# Altium schematic symbol library Schlib_Microchip.SchLib: 32 symbols
Pins are listed as number, name and electrical type; pins without a type are passive.

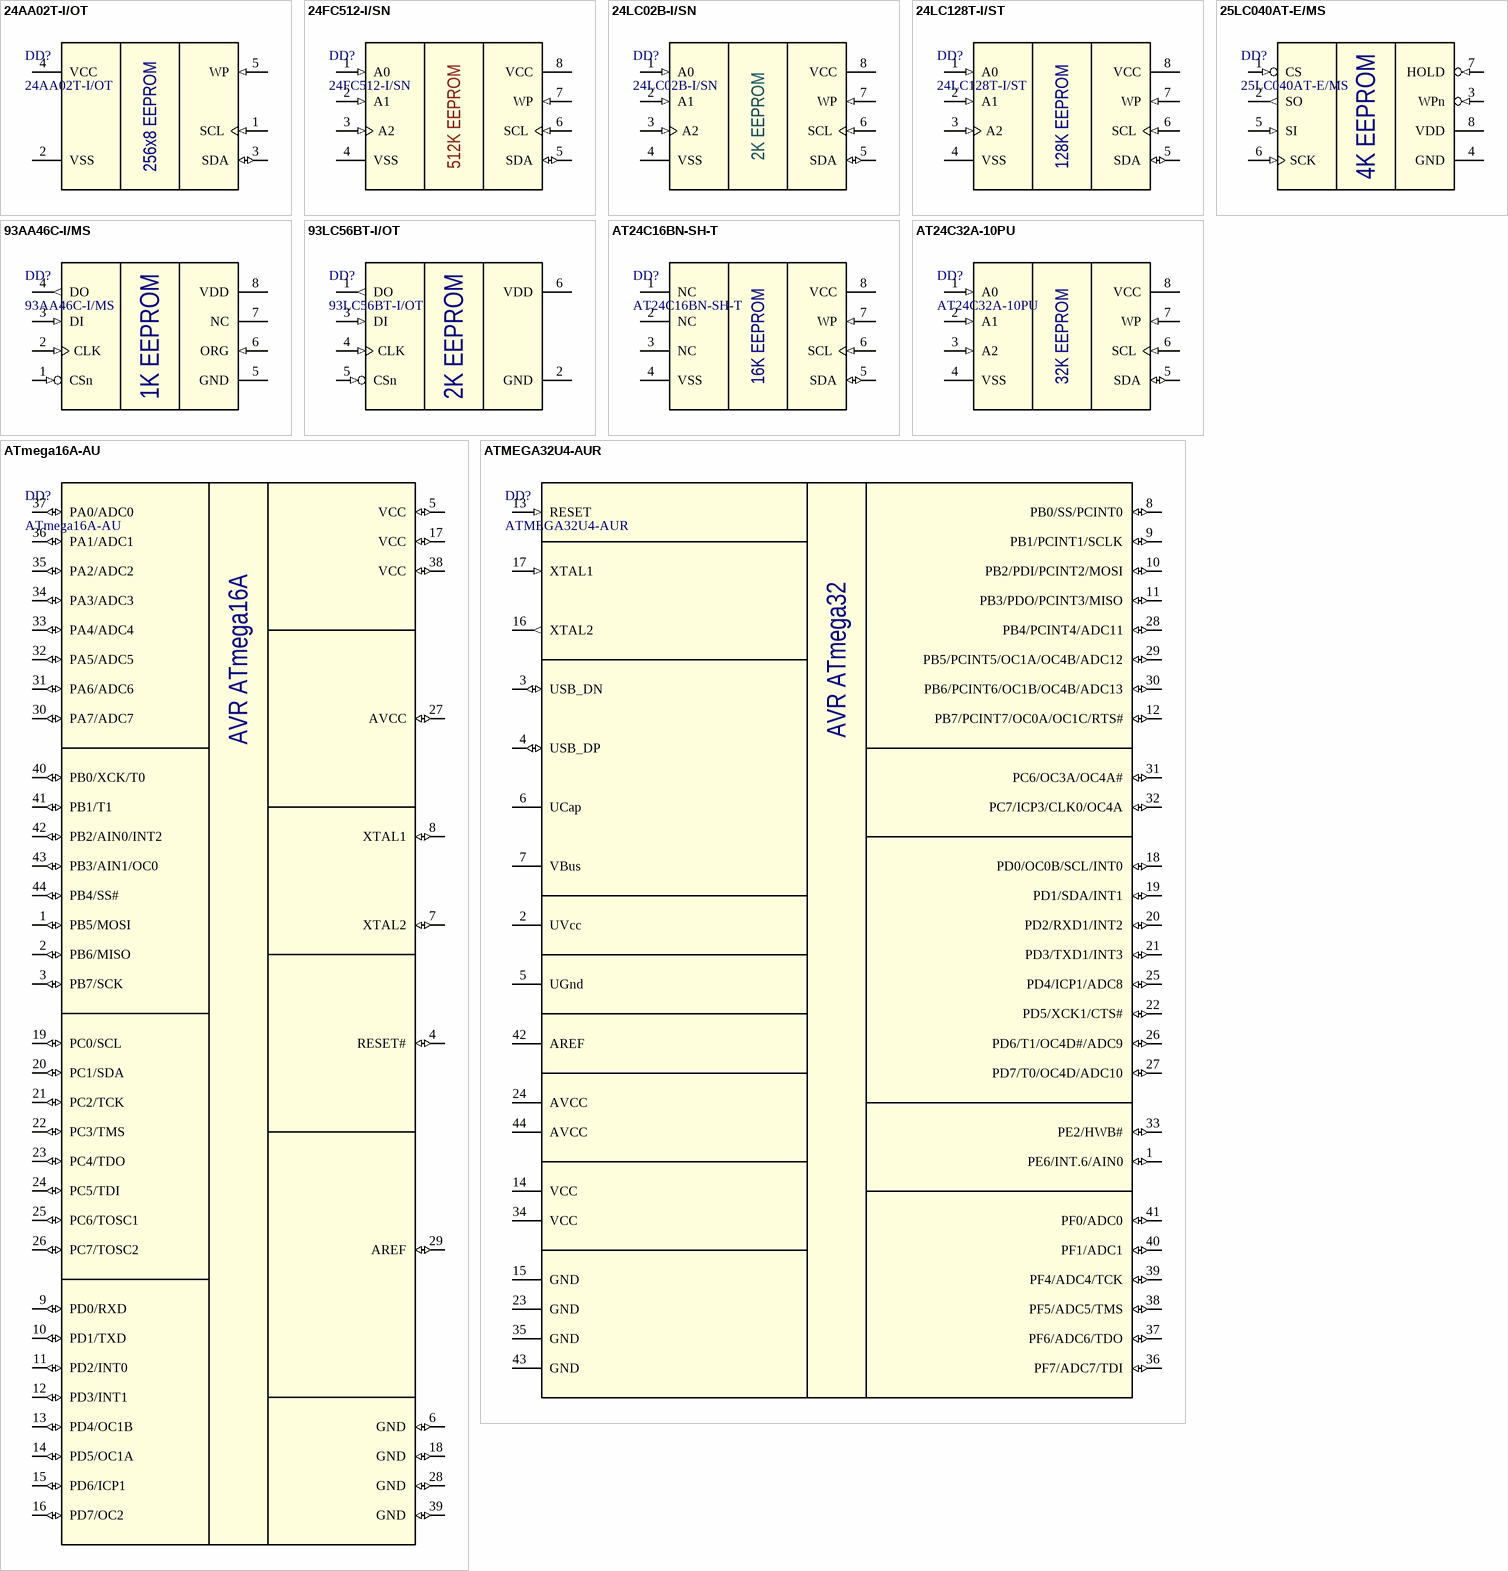
[diagram p0: symbols 24AA02T-I/OT to ATMEGA32U4-AUR]

## 24AA02T-I/OT
designator DD?
2K I2C Serial EEPROM; Manufacturer: Microchip Technology; Package: SOT23-5; Part Number: 24AA02T-I/OT
footprint SOT23-5 (with SO-8) (SOT23, 6-Leads, Body 2.90x2.80mm, Pitch 0.95mm, IPC Medium Density)
footprint SOT23-5 (SOT23, 6-Leads, Body 2.90x2.80mm, Pitch 0.95mm, IPC Medium Density)
pins: 1 SCL (in), 2 VSS (power), 3 SDA (io), 4 VCC (power), 5 WP (in)
text: 256x8 EEPROM

## 24FC512-I/SN
designator DD?
512K I2C Serial EEPROM; Manufacturer: Microchip Technology; Package: SOIC-8; Part Number: 24FC512-I/SN
footprint SOIC-8 (SOIC-8 package)
footprint SOIC-8_with_DIP-8 (Plastic DIP, 8 pin, lead pitch 2.54mm (0.1"), row spacing 7.62mm (0.3").)
pins: 1 A0 (in), 2 A1 (in), 3 A2 (in), 4 VSS (power), 5 SDA (io), 6 SCL (in), 7 WP (in), 8 VCC (power)
text: 512K EEPROM

## 24LC02B-I/SN
designator DD?
2K I2C Serial EEPROM; Manufacturer: Microchip Technology; Package: SOIC-8; Part Number: 24LC02B-I/SN
footprint SOIC-8 (SOIC-8 package)
footprint SOIC-8_with_DIP-8 (Plastic DIP, 8 pin, lead pitch 2.54mm (0.1"), row spacing 7.62mm (0.3").)
pins: 1 A0 (in), 2 A1 (in), 3 A2 (in), 4 VSS (power), 5 SDA (io), 6 SCL (in), 7 WP (in), 8 VCC (power)
text: 2K EEPROM

## 24LC128T-I/ST
designator DD?
128K I2C Serial EEPROM; Manufacturer: Microchip Technology; Package: TSSOP-8; Part Number: 24LC128T-I/ST
footprint TSSOP-8 (TSOP, 8-Leads, Body 3,00x3,00mm, Pitch 0,65mm, IPC Medium Density)
footprint TSSOP-8(with SOIC-8) (TSOP, 8-Leads, Body 3,00x3,00mm, Pitch 0,65mm, IPC Medium Density)
pins: 1 A0 (in), 2 A1 (in), 3 A2 (in), 4 VSS (power), 5 SDA (io), 6 SCL (in), 7 WP (in), 8 VCC (power)
text: 128K EEPROM

## 25LC040AT-E/MS
designator DD?
4K SPI Bus Serial EEPROM; Manufacturer: Microchip Technology; Package: MSOP-8; Part Number: 25LC040AT-E/MS
footprint MSOP-8 (TSOP, 8-Leads, Body 3.00x3.00mm, Pitch 0.65mm, IPC Medium Density)
pins: 1 CS (in), 2 SO (out), 3 WPn (in), 4 GND (power), 5 SI (in), 6 SCK (in), 7 HOLD (in), 8 VDD (power)
text: 4K EEPROM

## 93AA46C-I/MS
designator DD?
1K Microwire Compatible Serial EEPROM; Manufacturer: Microchip Technology; Package: MSOP-8; Part Number: 93AA46C-I/MS
footprint MSOP-8 (TSOP, 8-Leads, Body 3.00x3.00mm, Pitch 0.65mm, IPC Medium Density)
pins: 1 CSn (in), 2 CLK (in), 3 DI (in), 4 DO (out), 5 GND (power), 6 ORG (in), 7 NC (hiz), 8 VDD (power)
text: 1K EEPROM

## 93LC56BT-I/OT
designator DD?
2K Microwire Compatible Serial EEPROM; Manufacturer: Microchip Technology; Package: SOT23-6; Part Number: 93LC56BT-I/OT
footprint SOT23-6 (SOT23, 6-Leads, Body 2.90x2.80mm, Pitch 0.95mm, IPC Medium Density)
pins: 1 DO (out), 2 GND (power), 3 DI (in), 4 CLK (in), 5 CSn (in), 6 VDD (power)
text: 2K EEPROM

## AT24C16BN-SH-T
designator DD?
16K I2C Serial EEPROM; Manufacturer: Microchip Technology; Package: SOIC-8; Part Number: AT24C16BN-SH-T
footprint SOIC-8 (SOIC-8 package)
footprint SOIC-8_with_DIP-8 (Plastic DIP, 8 pin, lead pitch 2.54mm (0.1"), row spacing 7.62mm (0.3").)
pins: 1 NC (hiz), 2 NC (hiz), 3 NC (hiz), 4 VSS (power), 5 SDA (io), 6 SCL (in), 7 WP (in), 8 VCC (power)
text: 16K EEPROM

## AT24C32A-10PU
designator DD?
32K I2C Serial EEPROM; Manufacturer: Microchip Technology; Package: DIP-8; Part Number: AT24C32A-10PU
footprint DIP-8P-M01 (Plastic DIP, 8 pin, lead pitch 2.54mm (0.1"), row spacing 7.62mm (0.3").)
footprint DIP-8P-M01_with_SO8 (Plastic DIP, 8 pin, lead pitch 2.54mm (0.1"), row spacing 7.62mm (0.3").)
pins: 1 A0 (in), 2 A1 (in), 3 A2 (in), 4 VSS (power), 5 SDA (io), 6 SCL (in), 7 WP (in), 8 VCC (power)
text: 32K EEPROM

## ATmega16A-AU
designator DD?
AVR MCU 8-bit, 16MHz, 16KB Flash; Manufacturer: Atmel/Microchip Technology; Package: TQFP-44; Part Number: ATmega16A-AU
footprint TQFP-44 (TQFP-44 10x10mm package with 0.8mm pitch)
pins: 1 PB5/MOSI (io), 2 PB6/MISO (io), 3 PB7/SCK (io), 4 RESET# (io), 5 VCC (io), 6 GND (io), 7 XTAL2 (io), 8 XTAL1 (io), 9 PD0/RXD (io), 10 PD1/TXD (io), 11 PD2/INT0 (io), 12 PD3/INT1 (io), 13 PD4/OC1B (io), 14 PD5/OC1A (io), 15 PD6/ICP1 (io), 16 PD7/OC2 (io), 17 VCC (io), 18 GND (io), 19 PC0/SCL (io), 20 PC1/SDA (io), 21 PC2/TCK (io), 22 PC3/TMS (io), 23 PC4/TDO (io), 24 PC5/TDI (io), 25 PC6/TOSC1 (io), 26 PC7/TOSC2 (io), 27 AVCC (io), 28 GND (io), 29 AREF (io), 30 PA7/ADC7 (io), 31 PA6/ADC6 (io), 32 PA5/ADC5 (io), 33 PA4/ADC4 (io), 34 PA3/ADC3 (io), 35 PA2/ADC2 (io), 36 PA1/ADC1 (io), 37 PA0/ADC0 (io), 38 VCC (io), 39 GND (io), 40 PB0/XCK/T0 (io), 41 PB1/T1 (io), 42 PB2/AIN0/INT2 (io), 43 PB3/AIN1/OC0 (io), 44 PB4/SS# (io)
text: AVR ATmega16A

## ATMEGA32U4-AUR
designator DD?
AVR MCU 8-bit, 32KB Flash; Manufacturer: Atmel/Microchip Technology; Package: TQFP-44; Part Number: ATMEGA32U4-AUR
footprint TQFP-44 (TQFP-44 10x10mm package with 0.8mm pitch)
pins: 1 PE6/INT.6/AIN0 (io), 2 UVcc (power), 3 USB_DN (io), 4 USB_DP (io), 5 UGnd (power), 6 UCap, 7 VBus (power), 8 PB0/SS/PCINT0 (io), 9 PB1/PCINT1/SCLK (io), 10 PB2/PDI/PCINT2/MOSI (io), 11 PB3/PDO/PCINT3/MISO (io), 12 PB7/PCINT7/OC0A/OC1C/RTS# (io), 13 RESET (in), 14 VCC (power), 15 GND (power), 16 XTAL2 (out), 17 XTAL1 (in), 18 PD0/OC0B/SCL/INT0 (io), 19 PD1/SDA/INT1 (io), 20 PD2/RXD1/INT2 (io), 21 PD3/TXD1/INT3 (io), 22 PD5/XCK1/CTS# (io), 23 GND (power), 24 AVCC (power), 25 PD4/ICP1/ADC8 (io), 26 PD6/T1/OC4D#/ADC9 (io), 27 PD7/T0/OC4D/ADC10 (io), 28 PB4/PCINT4/ADC11 (io), 29 PB5/PCINT5/OC1A/OC4B/ADC12 (io), 30 PB6/PCINT6/OC1B/OC4B/ADC13 (io), 31 PC6/OC3A/OC4A# (io), 32 PC7/ICP3/CLK0/OC4A (io), 33 PE2/HWB# (io), 34 VCC (power), 35 GND (power), 36 PF7/ADC7/TDI (io), 37 PF6/ADC6/TDO (io), 38 PF5/ADC5/TMS (io), 39 PF4/ADC4/TCK (io), 40 PF1/ADC1 (io), 41 PF0/ADC0 (io), 42 AREF, 43 GND (power), 44 AVCC (power)
text: AVR ATmega32

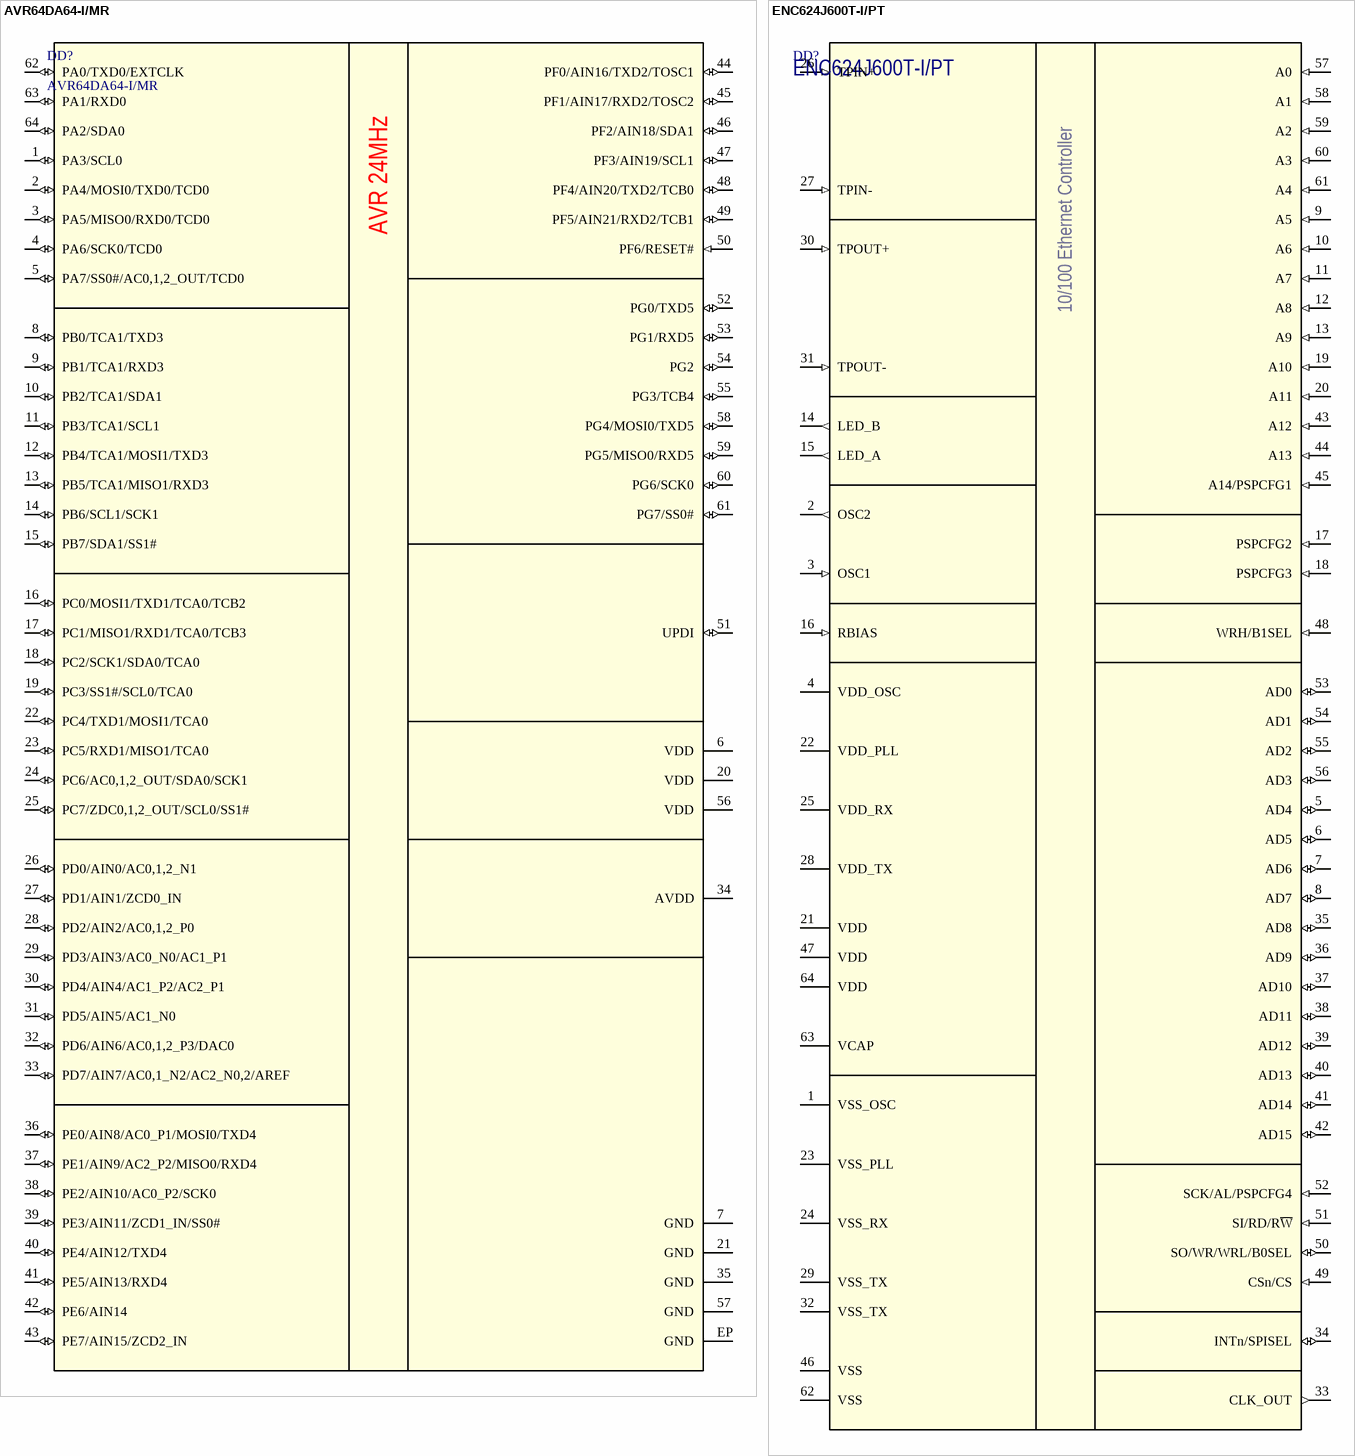
[diagram p1: symbols AVR64DA64-I/MR to ENC624J600T-I/PT]

## AVR64DA64-I/MR
designator DD?
AVR MCU 8-bit, 24MHz, 64KB Flash,8KB SRAM, 512B EEPROM, 32B USER ROW; Manufacturer: Atmel/Microchip Technology; Package: VQFN64; Part Number: AVR64DA64-I/MR
footprint VQFN-64_R4X (QFN64 9mm x 9mm, 0.5mm pitch)
pins: 1 PA3/SCL0 (io), 2 PA4/MOSI0/TXD0/TCD0 (io), 3 PA5/MISO0/RXD0/TCD0 (io), 4 PA6/SCK0/TCD0 (io), 5 PA7/SS0#/AC0,1,2_OUT/TCD0 (io), 6 VDD (power), 7 GND (power), 8 PB0/TCA1/TXD3 (io), 9 PB1/TCA1/RXD3 (io), 10 PB2/TCA1/SDA1 (io), 11 PB3/TCA1/SCL1 (io), 12 PB4/TCA1/MOSI1/TXD3 (io), 13 PB5/TCA1/MISO1/RXD3 (io), 14 PB6/SCL1/SCK1 (io), 15 PB7/SDA1/SS1# (io), 16 PC0/MOSI1/TXD1/TCA0/TCB2 (io), 17 PC1/MISO1/RXD1/TCA0/TCB3 (io), 18 PC2/SCK1/SDA0/TCA0 (io), 19 PC3/SS1#/SCL0/TCA0 (io), 20 VDD (power), 21 GND (power), 22 PC4/TXD1/MOSI1/TCA0 (io), 23 PC5/RXD1/MISO1/TCA0 (io), 24 PC6/AC0,1,2_OUT/SDA0/SCK1 (io), 25 PC7/ZDC0,1,2_OUT/SCL0/SS1# (io), 26 PD0/AIN0/AC0,1,2_N1 (io), 27 PD1/AIN1/ZCD0_IN (io), 28 PD2/AIN2/AC0,1,2_P0 (io), 29 PD3/AIN3/AC0_N0/AC1_P1 (io), 30 PD4/AIN4/AC1_P2/AC2_P1 (io), 31 PD5/AIN5/AC1_N0 (io), 32 PD6/AIN6/AC0,1,2_P3/DAC0 (io), 33 PD7/AIN7/AC0,1_N2/AC2_N0,2/AREF (io), 34 AVDD (power), 35 GND (power), 36 PE0/AIN8/AC0_P1/MOSI0/TXD4 (io), 37 PE1/AIN9/AC2_P2/MISO0/RXD4 (io), 38 PE2/AIN10/AC0_P2/SCK0 (io), 39 PE3/AIN11/ZCD1_IN/SS0# (io), 40 PE4/AIN12/TXD4 (io), 41 PE5/AIN13/RXD4 (io), 42 PE6/AIN14 (io), 43 PE7/AIN15/ZCD2_IN (io), 44 PF0/AIN16/TXD2/TOSC1 (io), 45 PF1/AIN17/RXD2/TOSC2 (io), 46 PF2/AIN18/SDA1 (io), 47 PF3/AIN19/SCL1 (io), 48 PF4/AIN20/TXD2/TCB0 (io), 49 PF5/AIN21/RXD2/TCB1 (io), 50 PF6/RESET# (in), 51 UPDI (io), 52 PG0/TXD5 (io), 53 PG1/RXD5 (io), 54 PG2 (io), 55 PG3/TCB4 (io), 56 VDD (power), 57 GND (power), 58 PG4/MOSI0/TXD5 (io), 59 PG5/MISO0/RXD5 (io), 60 PG6/SCK0 (io), 61 PG7/SS0# (io), 62 PA0/TXD0/EXTCLK (io), 63 PA1/RXD0 (io), 64 PA2/SDA0 (io), EP GND (power)
text: AVR 24MHz

## ENC624J600T-I/PT
designator DD?
Stand-Alone 10/100 Ethernet Controller with SPI/Parallel Interface; Manufacturer: Microchip Technology; Package: LQFP-64; Part Number: ENC624J600T-I/PT
footprint LQFP-64 (LQFP-64 package with 0.5mm pitch)
pins: 1 VSS_OSC (power), 2 OSC2 (out), 3 OSC1 (in), 4 VDD_OSC (power), 5 AD4 (io), 6 AD5 (io), 7 AD6 (io), 8 AD7 (io), 9 A5 (in), 10 A6 (in), 11 A7 (in), 12 A8 (in), 13 A9 (in), 14 LED_B (out), 15 LED_A (out), 16 RBIAS (in), 17 PSPCFG2 (in), 18 PSPCFG3 (in), 19 A10 (in), 20 A11 (in), 21 VDD (power), 22 VDD_PLL (power), 23 VSS_PLL (power), 24 VSS_RX (power), 25 VDD_RX (power), 26 TPIN+ (in), 27 TPIN- (in), 28 VDD_TX (power), 29 VSS_TX (power), 30 TPOUT+ (in), 31 TPOUT- (in), 32 VSS_TX (power), 33 CLK_OUT (out), 34 INTn/SPISEL (io), 35 AD8 (io), 36 AD9 (io), 37 AD10 (io), 38 AD11 (io), 39 AD12 (io), 40 AD13 (io), 41 AD14 (io), 42 AD15 (io), 43 A12 (in), 44 A13 (in), 45 A14/PSPCFG1 (in), 46 VSS (power), 47 VDD (power), 48 WRH/B1SEL (in), 49 CSn/CS (in), 50 SO/WR/WRL/B0SEL (io), 51 SI/RD/R~{W} (in), 52 SCK/AL/PSPCFG4 (in), 53 AD0 (io), 54 AD1 (io), 55 AD2 (io), 56 AD3 (io), 57 A0 (in), 58 A1 (in), 59 A2 (in), 60 A3 (in), 61 A4 (in), 62 VSS (power), 63 VCAP (power), 64 VDD (power)
text: 10/100 Ethernet Controller

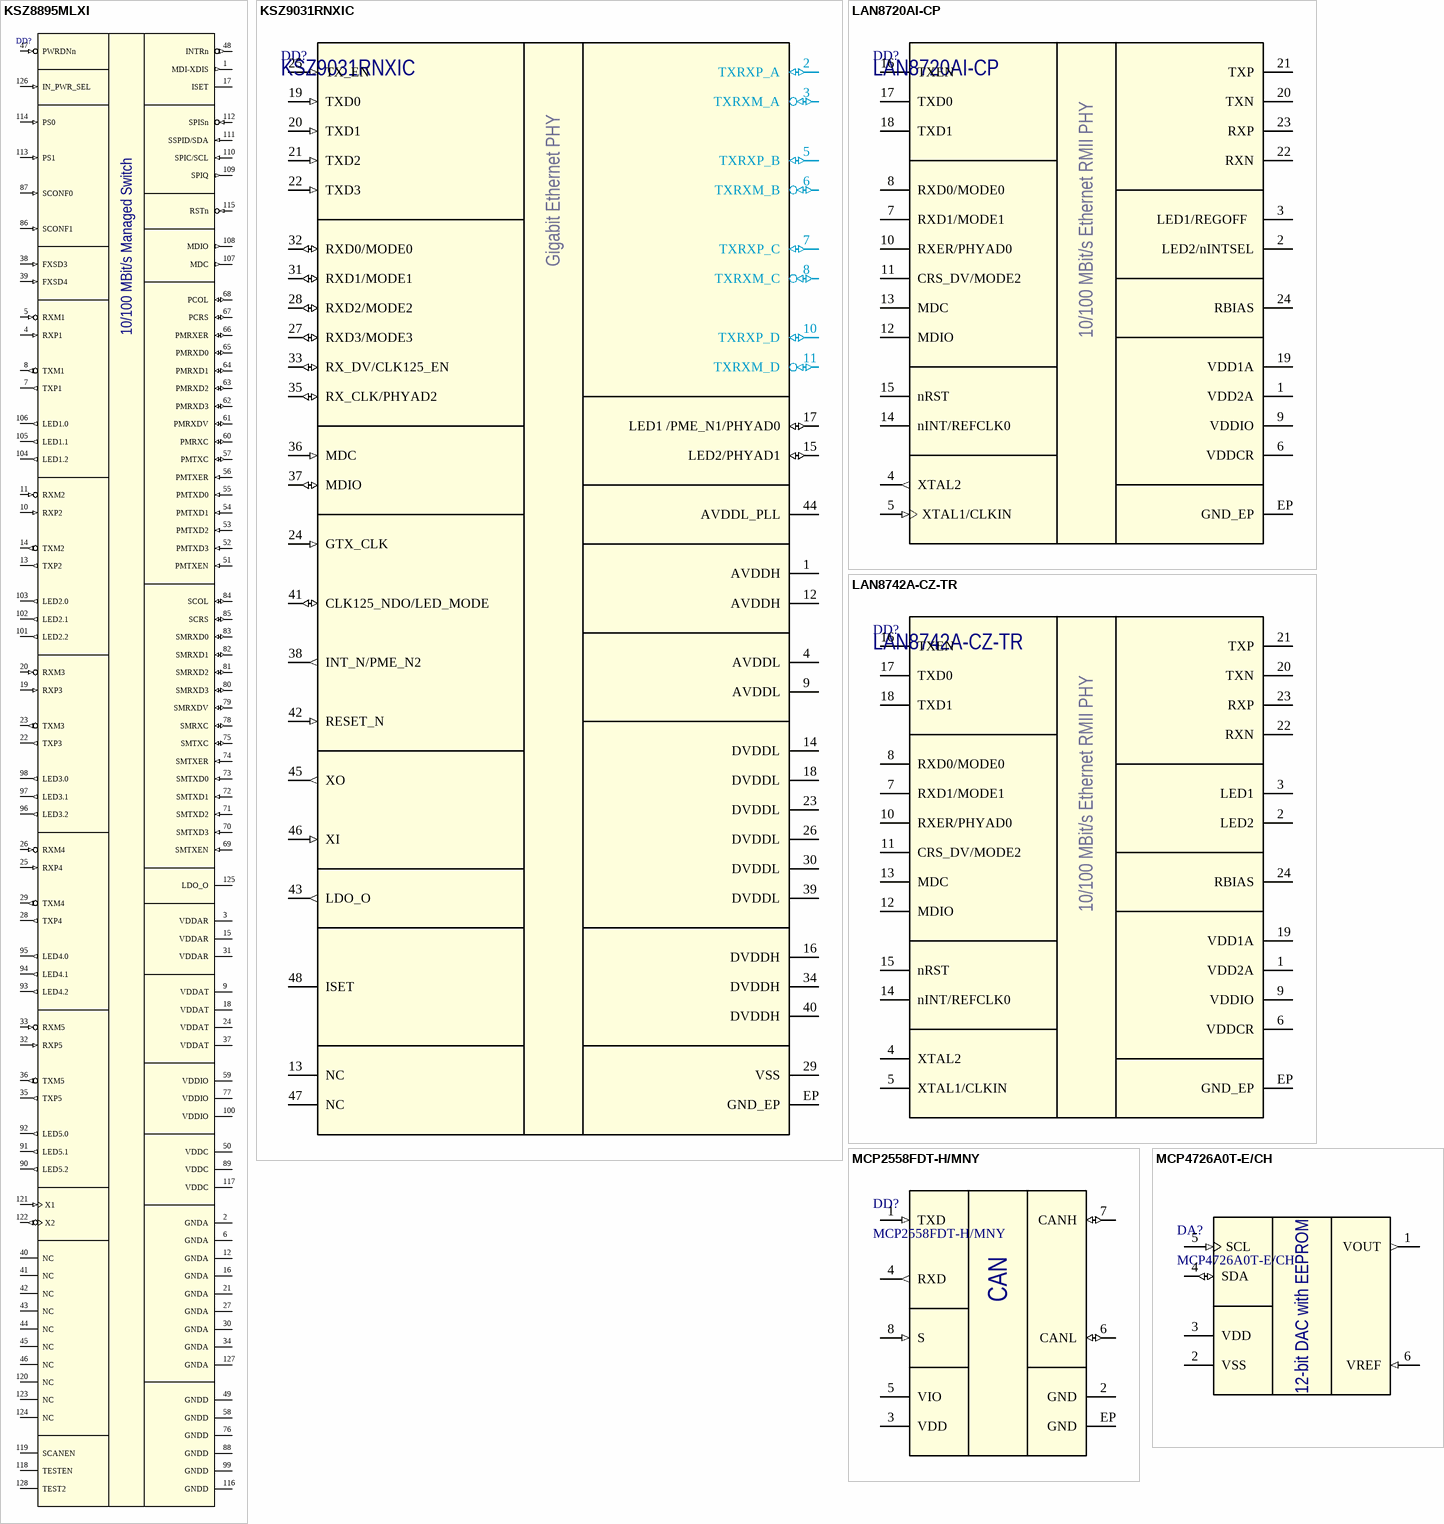
[diagram p2: symbols KSZ8895MLXI to MCP4726A0T-E/CH]

## KSZ8895MLXI
designator DD?  (value not drawn)
Ethernet 5-port switch; Manufacturer: Microchip Technology; Package: LQFP128; Part Number: KSZ8895MLXI
footprint LQFP-128 (TSQFP, 128-Leads, Body 14.00x14.00mm, Pitch 0.40mm, IPC Medium Density)
pins: 1 MDI-XDIS (out), 2 GNDA (power), 3 VDDAR (power), 4 RXP1 (in), 5 RXM1 (in), 6 GNDA (power), 7 TXP1 (out), 8 TXM1 (out), 9 VDDAT (power), 10 RXP2 (in), 11 RXM2 (in), 12 GNDA (power), 13 TXP2 (out), 14 TXM2 (out), 15 VDDAR (power), 16 GNDA (power), 17 ISET, 18 VDDAT (power), 19 RXP3 (in), 20 RXM3 (in), 21 GNDA (power), 22 TXP3 (out), 23 TXM3 (out), 24 VDDAT (power), 25 RXP4 (in), 26 RXM4 (in), 27 GNDA (power), 28 TXP4 (out), 29 TXM4 (out), 30 GNDA (power), 31 VDDAR (power), 32 RXP5 (in), 33 RXM5 (in), 34 GNDA (power), 35 TXP5 (out), 36 TXM5 (out), 37 VDDAT (power), 38 FXSD3 (in), 39 FXSD4 (in), 40 NC, 41 NC, 42 NC, 43 NC, 44 NC, 45 NC, 46 NC, 47 PWRDNn (in), 48 INTRn (out), 49 GNDD (power), 50 VDDC (power), 51 PMTXEN (in), 52 PMTXD3 (in), 53 PMTXD2 (in), 54 PMTXD1 (in), 55 PMTXD0 (in), 56 PMTXER (in), 57 PMTXC (io), 58 GNDD (power), 59 VDDIO (power), 60 PMRXC (io), 61 PMRXDV (io), 62 PMRXD3 (io), 63 PMRXD2 (io), 64 PMRXD1 (io), 65 PMRXD0 (io), 66 PMRXER (io), 67 PCRS (io), 68 PCOL (io), 69 SMTXEN (in), 70 SMTXD3 (in), 71 SMTXD2 (in), 72 SMTXD1 (in), 73 SMTXD0 (in), 74 SMTXER (in), 75 SMTXC (io), 76 GNDD (power), 77 VDDIO (power), 78 SMRXC (io), 79 SMRXDV (io), 80 SMRXD3 (io), 81 SMRXD2 (io), 82 SMRXD1 (io), 83 SMRXD0 (io), 84 SCOL (io), 85 SCRS (io), 86 SCONF1 (in), 87 SCONF0 (in), 88 GNDD (power), 89 VDDC (power), 90 LED5.2 (out), 91 LED5.1 (out), 92 LED5.0 (out), 93 LED4.2 (out), 94 LED4.1 (out), 95 LED4.0 (out), 96 LED3.2 (out), 97 LED3.1 (out), 98 LED3.0 (out), 99 GNDD (power), 100 VDDIO (power), 101 LED2.2 (out), 102 LED2.1 (out), 103 LED2.0 (out), 104 LED1.2 (out), 105 LED1.1 (out), 106 LED1.0 (out), 107 MDC (out), 108 MDIO (out), 109 SPIQ (out), 110 SPIC/SCL (in), 111 SSPID/SDA (in), 112 SPISn (in), 113 PS1 (in), 114 PS0 (in), 115 RSTn (in), 116 GNDD (power), 117 VDDC (power), 118 TESTEN, 119 SCANEN, 120 NC, 121 X1 (in), 122 X2 (out), 123 NC, 124 NC, 125 LDO_O (power), 126 IN_PWR_SEL (in), 127 GNDA (power), 128 TEST2
text: 10/100 MBit/s Managed Switch

## KSZ9031RNXIC
designator DD?
Gigabit Ethernet Transceiver with RGMII Support; Manufacturer: Microchip Technology; Package: QFN-48; Part Number: KSZ9031RNXIC
footprint QFN48 (QFN, 48-Leads, Body 6.95x6.95mm, Pitch 0.50mm, Thermal Pad 5.60x5.60mm, IPC Medium Density)
pins: 1 AVDDH (power), 2 TXRXP_A (io), 3 TXRXM_A (io), 4 AVDDL (power), 5 TXRXP_B (io), 6 TXRXM_B (io), 7 TXRXP_C (io), 8 TXRXM_C (io), 9 AVDDL (power), 10 TXRXP_D (io), 11 TXRXM_D (io), 12 AVDDH (power), 13 NC (hiz), 14 DVDDL (power), 15 LED2/PHYAD1 (io), 16 DVDDH (power), 17 LED1 /PME_N1/PHYAD0 (io), 18 DVDDL (power), 19 TXD0 (in), 20 TXD1 (in), 21 TXD2 (in), 22 TXD3 (in), 23 DVDDL (power), 24 GTX_CLK (in), 25 TX_EN (in), 26 DVDDL (power), 27 RXD3/MODE3 (io), 28 RXD2/MODE2 (io), 29 VSS (power), 30 DVDDL (power), 31 RXD1/MODE1 (io), 32 RXD0/MODE0 (io), 33 RX_DV/CLK125_EN (io), 34 DVDDH (power), 35 RX_CLK/PHYAD2 (io), 36 MDC (in), 37 MDIO (io), 38 INT_N/PME_N2 (out), 39 DVDDL (power), 40 DVDDH (power), 41 CLK125_NDO/LED_MODE (io), 42 RESET_N (in), 43 LDO_O (out), 44 AVDDL_PLL (power), 45 XO (out), 46 XI (in), 47 NC (hiz), 48 ISET, EP GND_EP
text: Gigabit Ethernet PHY

## LAN8720AI-CP
designator DD?
10/100 MBit/s Ethernet RMII PHY; Manufacturer: Microchip Technology; Package: QFN-24; Part Number: LAN8720AI-CP
footprint QFN24 (QFN, 24-Leads, Body 4.00x4.00mm, Pitch 0.50mm, Thermal Pad 2.50x2.50mm, IPC Medium Density)
pins: 1 VDD2A, 2 LED2/nINTSEL, 3 LED1/REGOFF  , 4 XTAL2 (out), 5 XTAL1/CLKIN (in), 6 VDDCR, 7 RXD1/MODE1, 8 RXD0/MODE0, 9 VDDIO, 10 RXER/PHYAD0, 11 CRS_DV/MODE2, 12 MDIO, 13 MDC, 14 nINT/REFCLK0, 15 nRST, 16 TXEN, 17 TXD0, 18 TXD1, 19 VDD1A, 20 TXN, 21 TXP, 22 RXN, 23 RXP, 24 RBIAS, EP GND_EP

## LAN8742A-CZ-TR
designator DD?
10/100 MBit/s Ethernet RMII PHY; Manufacturer: Microchip Technology; Package: QFN-24; Part Number: LAN8742A-CZ-TR
footprint QFN24 (QFN, 24-Leads, Body 4.00x4.00mm, Pitch 0.50mm, Thermal Pad 2.50x2.50mm, IPC Medium Density)
pins: 1 VDD2A, 2 LED2, 3 LED1, 4 XTAL2, 5 XTAL1/CLKIN, 6 VDDCR, 7 RXD1/MODE1, 8 RXD0/MODE0, 9 VDDIO, 10 RXER/PHYAD0, 11 CRS_DV/MODE2, 12 MDIO, 13 MDC, 14 nINT/REFCLK0, 15 nRST, 16 TXEN, 17 TXD0, 18 TXD1, 19 VDD1A, 20 TXN, 21 TXP, 22 RXN, 23 RXP, 24 RBIAS, EP GND_EP

## MCP2558FDT-H/MNY
designator DD?
CAN FD Transceiver with Silent Mode; Manufacturer: Microchip Technology; Package: TDFN-8 (2 mm x 3 mm); Part Number: MCP2558FDT-H/MNY
footprint TDFN-8 (TDFN-8 package with 0.5mm pitch)
pins: 1 TXD (in), 2 GND (power), 3 VDD (power), 4 RXD (out), 5 VIO (power), 6 CANL (io), 7 CANH (io), 8 S (in), EP GND (power)
text: CAN

## MCP4726A0T-E/CH
designator DA?
12-Bit Voltage Output Digital-to-Analog Converter with EEPROM and I2C Interface; Manufacturer: Microchip Technology; Package: SOT23-6; Part Number: MCP4726A0T-E/CH
footprint SOT23-6 (SOT23, 6-Leads, Body 2.90x2.80mm, Pitch 0.95mm, IPC Medium Density)
pins: 1 VOUT (out), 2 VSS (power), 3 VDD (power), 4 SDA (io), 5 SCL (in), 6 VREF (in)
text: 12-bit DAC with EEPROM

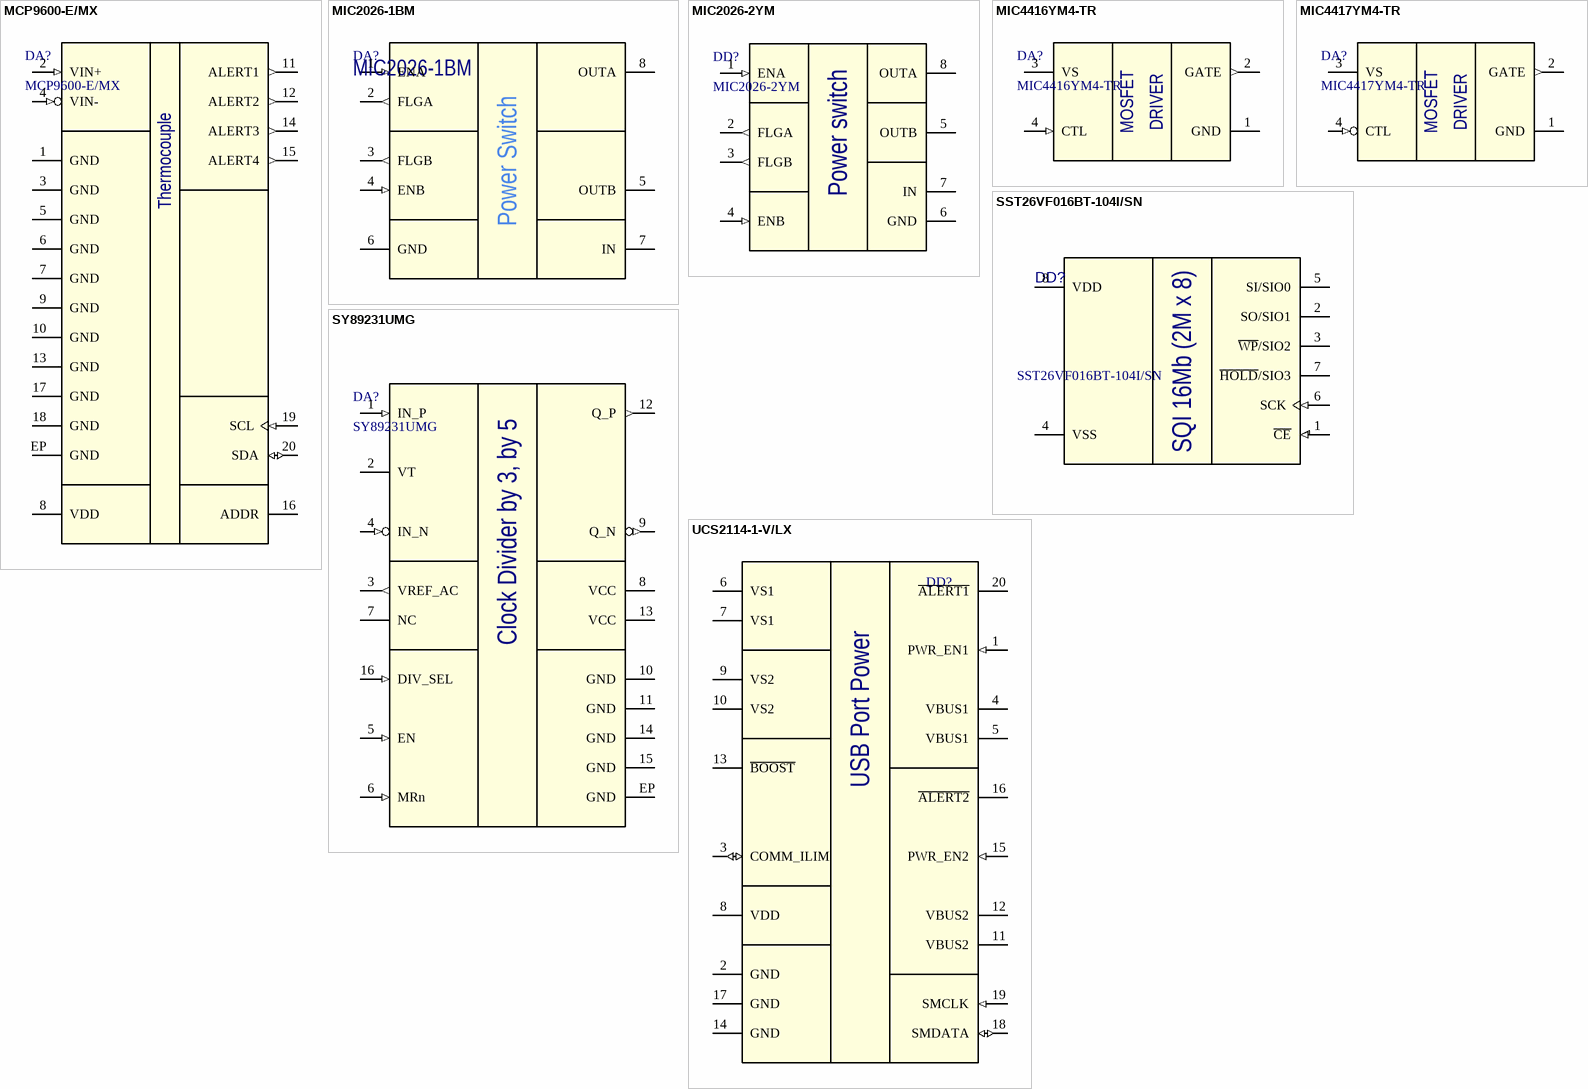
[diagram p3: symbols MCP9600-E/MX to UCS2114-1-V/LX]

## MCP9600-E/MX
designator DA?
Thermocouple EMF to Temperature Converter, ±1.5°C Maximum Accuracy; Manufacturer: Microchip Technology; Package: MQFN-20; Part Number: MCP9600-E/MX
footprint MQFN20 (PQFN, 20-Leads, Body 5.00x5.35mm, Pitch 0.65mm, Thermal Pad 3.15x3.15mm, IPC Medium Density)
pins: 1 GND (power), 2 VIN+ (in), 3 GND (power), 4 VIN- (in), 5 GND (power), 6 GND (power), 7 GND (power), 8 VDD (power), 9 GND (power), 10 GND (power), 11 ALERT1 (out), 12 ALERT2 (out), 13 GND (power), 14 ALERT3 (out), 15 ALERT4 (out), 16 ADDR, 17 GND (power), 18 GND (power), 19 SCL (in), 20 SDA (io), EP GND (power)
text: Thermocouple

## MIC2026-1BM
designator DA?
Dual-Channel Power Distribution Switch; Manufacturer: Microchip Technology; AltManufacturer: AIC Corp.; Alternative: AIC1526-1CS; Package: SOIC-8; Part Number: MIC2026-1BM
footprint SOIC-8 (SOIC-8 package)
pins: 1 ENA (in), 2 FLGA (out), 3 FLGB (out), 4 ENB (in), 5 OUTB (power), 6 GND (power), 7 IN (power), 8 OUTA (power)
text: Power Switch

## MIC2026-2YM
designator DD?
Dual channel power distibution switch; Manufacturer: Microchip Technology; Package: SOIC-8; Part Number: MIC2026-2YM
footprint SOIC-8 (SOIC-8 package)
pins: 1 ENA (in), 2 FLGA (out), 3 FLGB (out), 4 ENB (in), 5 OUTB (power), 6 GND (power), 7 IN (power), 8 OUTA (power)
text: Power switch

## MIC4416YM4-TR
designator DA?
IC GATE DRVR LOW-SIDE; Manufacturer: Microchip Technology; Package: SOT143; Part Number: MIC4416YM4-TR
footprint SOT143 (SOT143, 4-Leads, Body 2.92x2.37mm, Pitch 1.90mm, IPC Medium Density)
pins: 1 GND (power), 2 GATE (out), 3 VS (power), 4 CTL (in)
text: MOSFET; DRIVER

## MIC4417YM4-TR
designator DA?
IC GATE DRVR LOW-SIDE; Manufacturer: Microchip Technology; Package: SOT143; Part Number: MIC4417YM4-TR
footprint SOT143 (SOT143, 4-Leads, Body 2.92x2.37mm, Pitch 1.90mm, IPC Medium Density)
pins: 1 GND (power), 2 GATE (out), 3 VS (power), 4 CTL (in)
text: MOSFET; DRIVER

## SST26VF016BT-104I/SN
designator DD?
SQI Serial Flash 16Mb (2M x 8); Manufacturer: Microchip Technology; Part Number: SST26VF016BT-104I/SN; ComponentLink1URL: http://www.microchip.com/wwwproducts/SST26VF016B; ComponentLink1Description: SVN Datasheet; ComponentLink2Description: Local Datasheet; ComponentLink3URL: C:\ALTIUM_WORK\00001_MCHP-CDB\Library\LibraryRefs\SST26VFXXX SOIC-8_WSON-8_SOIJ-8.SchLib; ComponentLink3Description: Open Symbol; ComponentLink4URL: C:\ALTIUM_WORK\00001_MCHP-CDB\Library\Footprints\SOIJ-8.PcbLib; ComponentLink4Description: Open Footprint; ComponentLink5Description: Open Footprint 2; ComponentLink6Description: Open Footprint 3; ComponentLink7Description: Open Footprint 4
footprint SOIC-8 (SOIC-8 package)
pins: 1 ~{CE} (in) "GND", 2 SO/SIO1 "GND", 3 ~{WP}/SIO2 "GND", 4 VSS (power) "GND", 5 SI/SIO0 "GND", 6 SCK (in) "GND", 7 ~{HOLD}/SIO3 "GND", 8 VDD (power) "GND"
1 alternate drawing of the same symbol
text: SQI 16Mb (2M x 8)

## SY89231UMG
designator DA?
3.2GHz Precision, LVDS ÷3, ÷5 Clock Divider; Manufacturer: Microchip Technology; Package: QFN-16; Part Number: SY89231UMG
footprint QFN16
pins: 1 IN_P (in), 2 VT, 3 VREF_AC (out), 4 IN_N (in), 5 EN (in), 6 MRn (in), 7 NC (hiz), 8 VCC (power), 9 Q_N (out), 10 GND (power), 11 GND (power), 12 Q_P (out), 13 VCC (power), 14 GND (power), 15 GND (power), 16 DIV_SEL (in), EP GND (power)
text: Clock Divider by 3, by 5

## UCS2114-1-V/LX
designator DD?  (value not drawn)
UCS2114 Dual USB port power; Manufacturer: Microchip Technology; Part Number: UCS2114-1-V/LX; ComponentLink1Description: SVN Datasheet; ComponentLink2URL: C:\ALTIUM_WORK\00001_MCHP-CDB\Datasheets\DOS_03417_UCS2114_revA; ComponentLink2Description: Local Datasheet; ComponentLink3URL: C:\ALTIUM_WORK\00001_MCHP-CDB\Library\LibraryRefs\UCS2114 VQFN-20.SchLib; ComponentLink3Description: Open Symbol; ComponentLink4URL: C:\ALTIUM_WORK\00001_MCHP-CDB\Library\Footprints\QFN-20_3X3_P0.5_EP0_UCS2114.PcbLib; ComponentLink4Description: Open Footprint; ComponentLink5Description: Open Footprint 2; ComponentLink6Description: Open Footprint 3; ComponentLink7Description: Open Footprint 4
footprint QFN20_UCS2114 (QFN-20_3X3 Pitch 0.5mm for UCS2114)
pins: 1 PWR_EN1 (in), 2 GND (power), 3 COMM_ILIM (io), 4 VBUS1 (power), 5 VBUS1 (power), 6 VS1 (power), 7 VS1 (power), 8 VDD (power), 9 VS2 (power), 10 VS2 (power), 11 VBUS2 (power), 12 VBUS2 (power), 13 ~{BOOST}, 14 GND (power), 15 PWR_EN2 (in), 16 ~{ALERT2}, 17 GND (power), 18 SMDATA (io), 19 SMCLK (in), 20 ~{ALERT1}
2 alternate drawings of the same symbol
text: USB Port Power

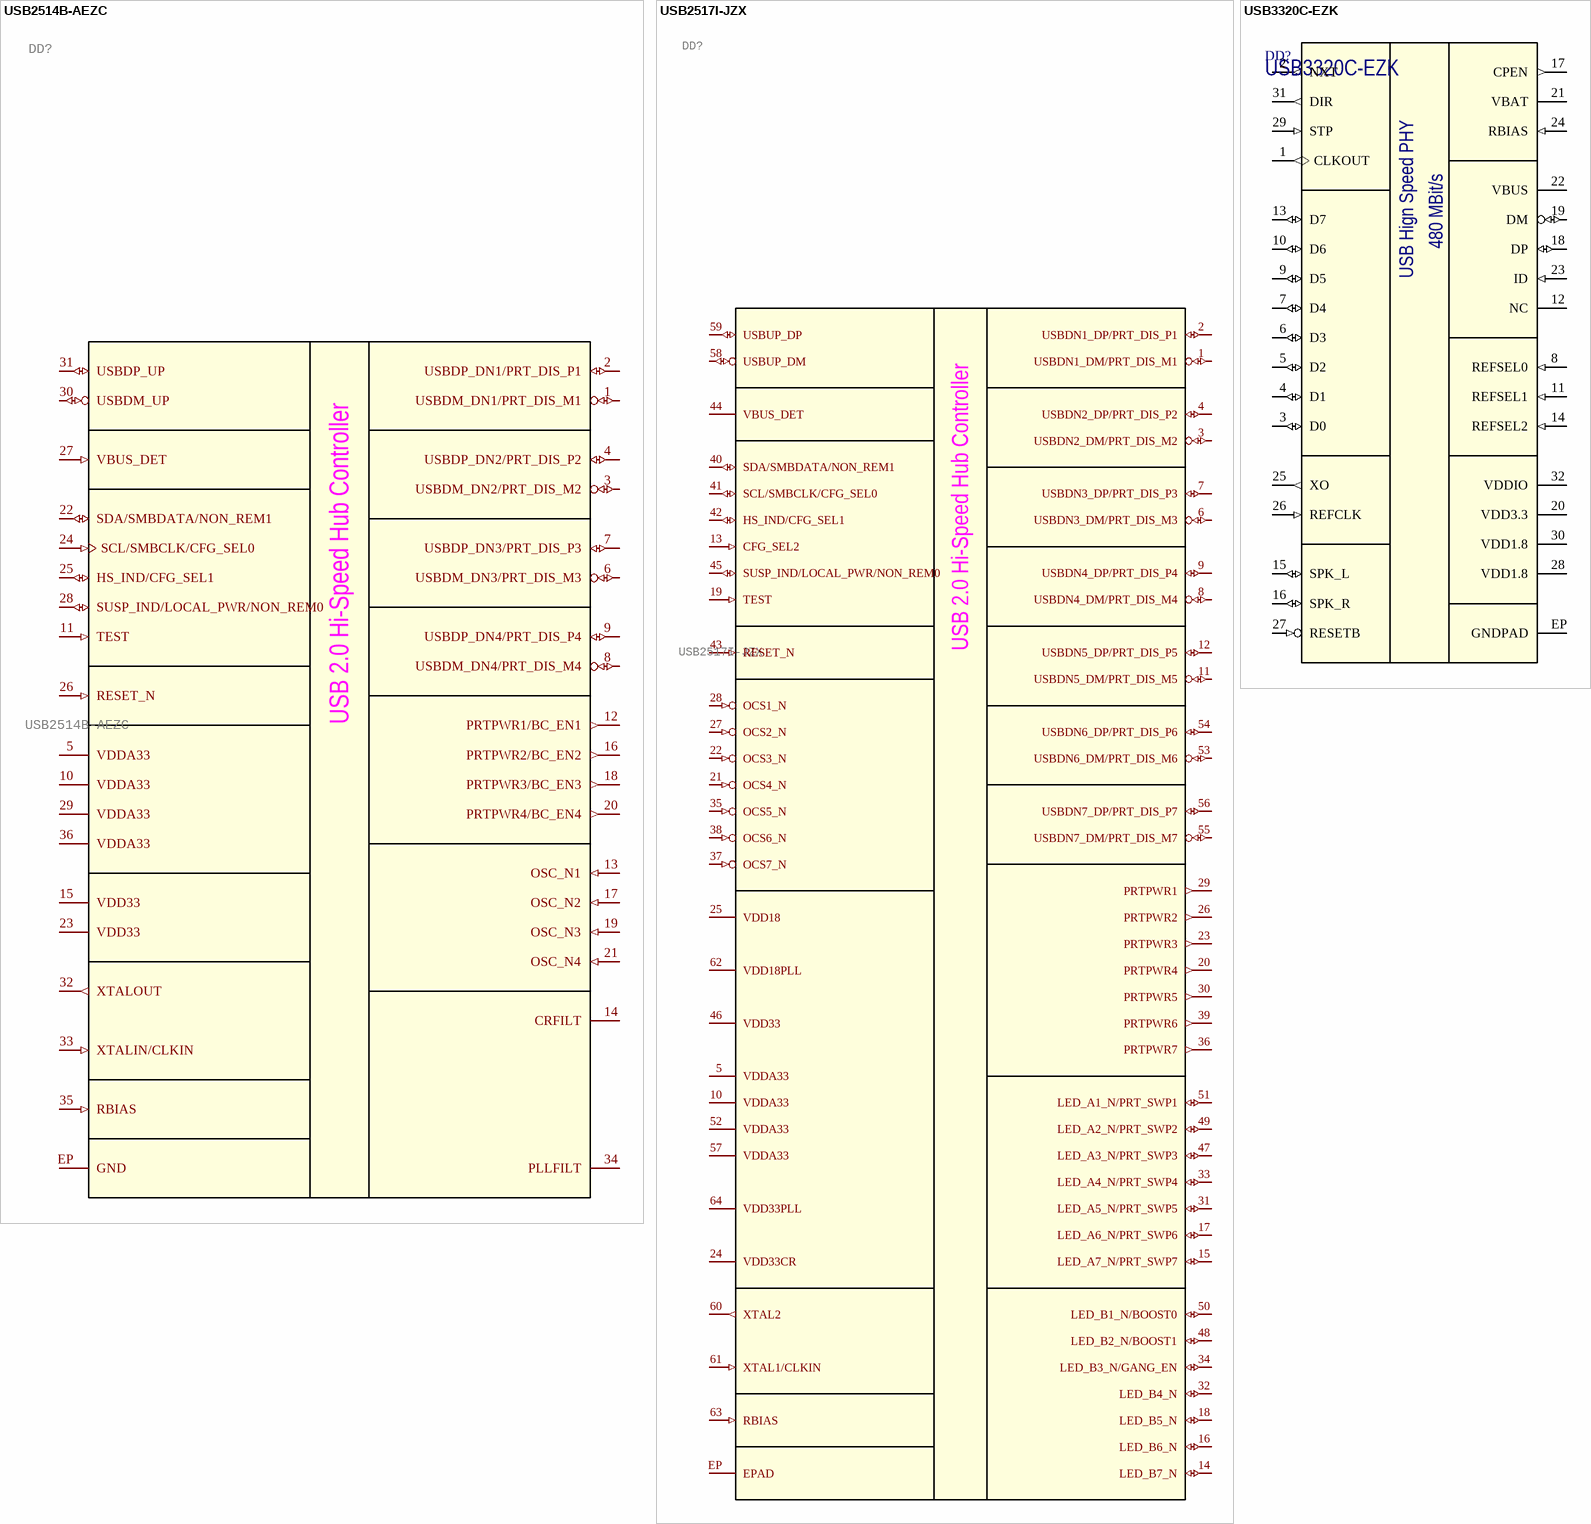
[diagram p4: symbols USB2514B-AEZC to USB3320C-EZK]

## USB2514B-AEZC
designator DD?
USB 2.0 Hi-Speed 4-port Hub Controller; Manufacturer: Microchip Technology; Part Number: USB2514B-AEZC; Package: QFN-36
footprint QFN-36_USB2514 (QFN-36 with 0.5mm pitch)
pins: 1 USBDM_DN1/PRT_DIS_M1 (io), 2 USBDP_DN1/PRT_DIS_P1 (io), 3 USBDM_DN2/PRT_DIS_M2 (io), 4 USBDP_DN2/PRT_DIS_P2 (io), 5 VDDA33 (power), 6 USBDM_DN3/PRT_DIS_M3 (io), 7 USBDP_DN3/PRT_DIS_P3 (io), 8 USBDM_DN4/PRT_DIS_M4 (io), 9 USBDP_DN4/PRT_DIS_P4 (io), 10 VDDA33 (power), 11 TEST (in), 12 PRTPWR1/BC_EN1 (out), 13 OSC_N1 (in), 14 CRFILT, 15 VDD33 (power), 16 PRTPWR2/BC_EN2 (out), 17 OSC_N2 (in), 18 PRTPWR3/BC_EN3 (out), 19 OSC_N3 (in), 20 PRTPWR4/BC_EN4 (out), 21 OSC_N4 (in), 22 SDA/SMBDATA/NON_REM1 (io), 23 VDD33 (power), 24 SCL/SMBCLK/CFG_SEL0 (in), 25 HS_IND/CFG_SEL1 (io), 26 RESET_N (in), 27 VBUS_DET (in), 28 SUSP_IND/LOCAL_PWR/NON_REM0 (io), 29 VDDA33 (power), 30 USBDM_UP (io), 31 USBDP_UP (io), 32 XTALOUT (out), 33 XTALIN/CLKIN (in), 34 PLLFILT, 35 RBIAS (in), 36 VDDA33 (power), EP GND (power)
text: USB 2.0 Hi-Speed Hub Controller

## USB2517I-JZX
designator DD?
USB 2.0 Hi-Speed 7-port Hub Controller; Manufacturer: Microchip Technology; Part Number: USB2517I-JZX; Package: QFN-64
footprint QFN-64_USB2517 (QFN-64 with 0.5mm pitch)
pins: 1 USBDN1_DM/PRT_DIS_M1 (io), 2 USBDN1_DP/PRT_DIS_P1 (io), 3 USBDN2_DM/PRT_DIS_M2 (io), 4 USBDN2_DP/PRT_DIS_P2 (io), 5 VDDA33 (power), 6 USBDN3_DM/PRT_DIS_M3 (io), 7 USBDN3_DP/PRT_DIS_P3 (io), 8 USBDN4_DM/PRT_DIS_M4 (io), 9 USBDN4_DP/PRT_DIS_P4 (io), 10 VDDA33 (power), 11 USBDN5_DM/PRT_DIS_M5 (io), 12 USBDN5_DP/PRT_DIS_P5 (io), 13 CFG_SEL2 (in), 14 LED_B7_N (io), 15 LED_A7_N/PRT_SWP7 (io), 16 LED_B6_N (io), 17 LED_A6_N/PRT_SWP6 (io), 18 LED_B5_N (io), 19 TEST (in), 20 PRTPWR4 (out), 21 OCS4_N (in), 22 OCS3_N (in), 23 PRTPWR3 (out), 24 VDD33CR (power), 25 VDD18 (power), 26 PRTPWR2 (out), 27 OCS2_N (in), 28 OCS1_N (in), 29 PRTPWR1 (out), 30 PRTPWR5 (out), 31 LED_A5_N/PRT_SWP5 (io), 32 LED_B4_N (io), 33 LED_A4_N/PRT_SWP4 (io), 34 LED_B3_N/GANG_EN (io), 35 OCS5_N (in), 36 PRTPWR7 (out), 37 OCS7_N (in), 38 OCS6_N (in), 39 PRTPWR6 (out), 40 SDA/SMBDATA/NON_REM1 (io), 41 SCL/SMBCLK/CFG_SEL0 (io), 42 HS_IND/CFG_SEL1 (io), 43 RESET_N (in), 44 VBUS_DET (power), 45 SUSP_IND/LOCAL_PWR/NON_REM0 (io), 46 VDD33 (power), 47 LED_A3_N/PRT_SWP3 (io), 48 LED_B2_N/BOOST1 (io), 49 LED_A2_N/PRT_SWP2 (io), 50 LED_B1_N/BOOST0 (io), 51 LED_A1_N/PRT_SWP1 (io), 52 VDDA33 (power), 53 USBDN6_DM/PRT_DIS_M6 (io), 54 USBDN6_DP/PRT_DIS_P6 (io), 55 USBDN7_DM/PRT_DIS_M7 (io), 56 USBDN7_DP/PRT_DIS_P7 (io), 57 VDDA33 (power), 58 USBUP_DM (io), 59 USBUP_DP (io), 60 XTAL2 (out), 61 XTAL1/CLKIN (in), 62 VDD18PLL (power), 63 RBIAS (in), 64 VDD33PLL (power), EP EPAD
text: USB 2.0 Hi-Speed Hub Controller

## USB3320C-EZK
designator DD?
USB High speed PHY 480 MBit/s; Manufacturer: Microchip Technology; Package: QFN32; Part Number: USB3320C-EZK
footprint QFN32_USB3320C (QFN-32 with 0.5mm pitch)
pins: 1 CLKOUT (out), 2 NXT (out), 3 D0 (io), 4 D1 (io), 5 D2 (io), 6 D3 (io), 7 D4 (io), 8 REFSEL0 (in), 9 D5 (io), 10 D6 (io), 11 REFSEL1 (in), 12 NC (hiz), 13 D7 (io), 14 REFSEL2 (in), 15 SPK_L (io), 16 SPK_R (io), 17 CPEN (out), 18 DP (io), 19 DM (io), 20 VDD3.3 (power), 21 VBAT, 22 VBUS, 23 ID (in), 24 RBIAS (in), 25 XO (out), 26 REFCLK (in), 27 RESETB (in), 28 VDD1.8 (power), 29 STP (in), 30 VDD1.8 (power), 31 DIR (out), 32 VDDIO (power), EP GNDPAD (power)
text: 480 MBit/s; USB Hign Speed PHY

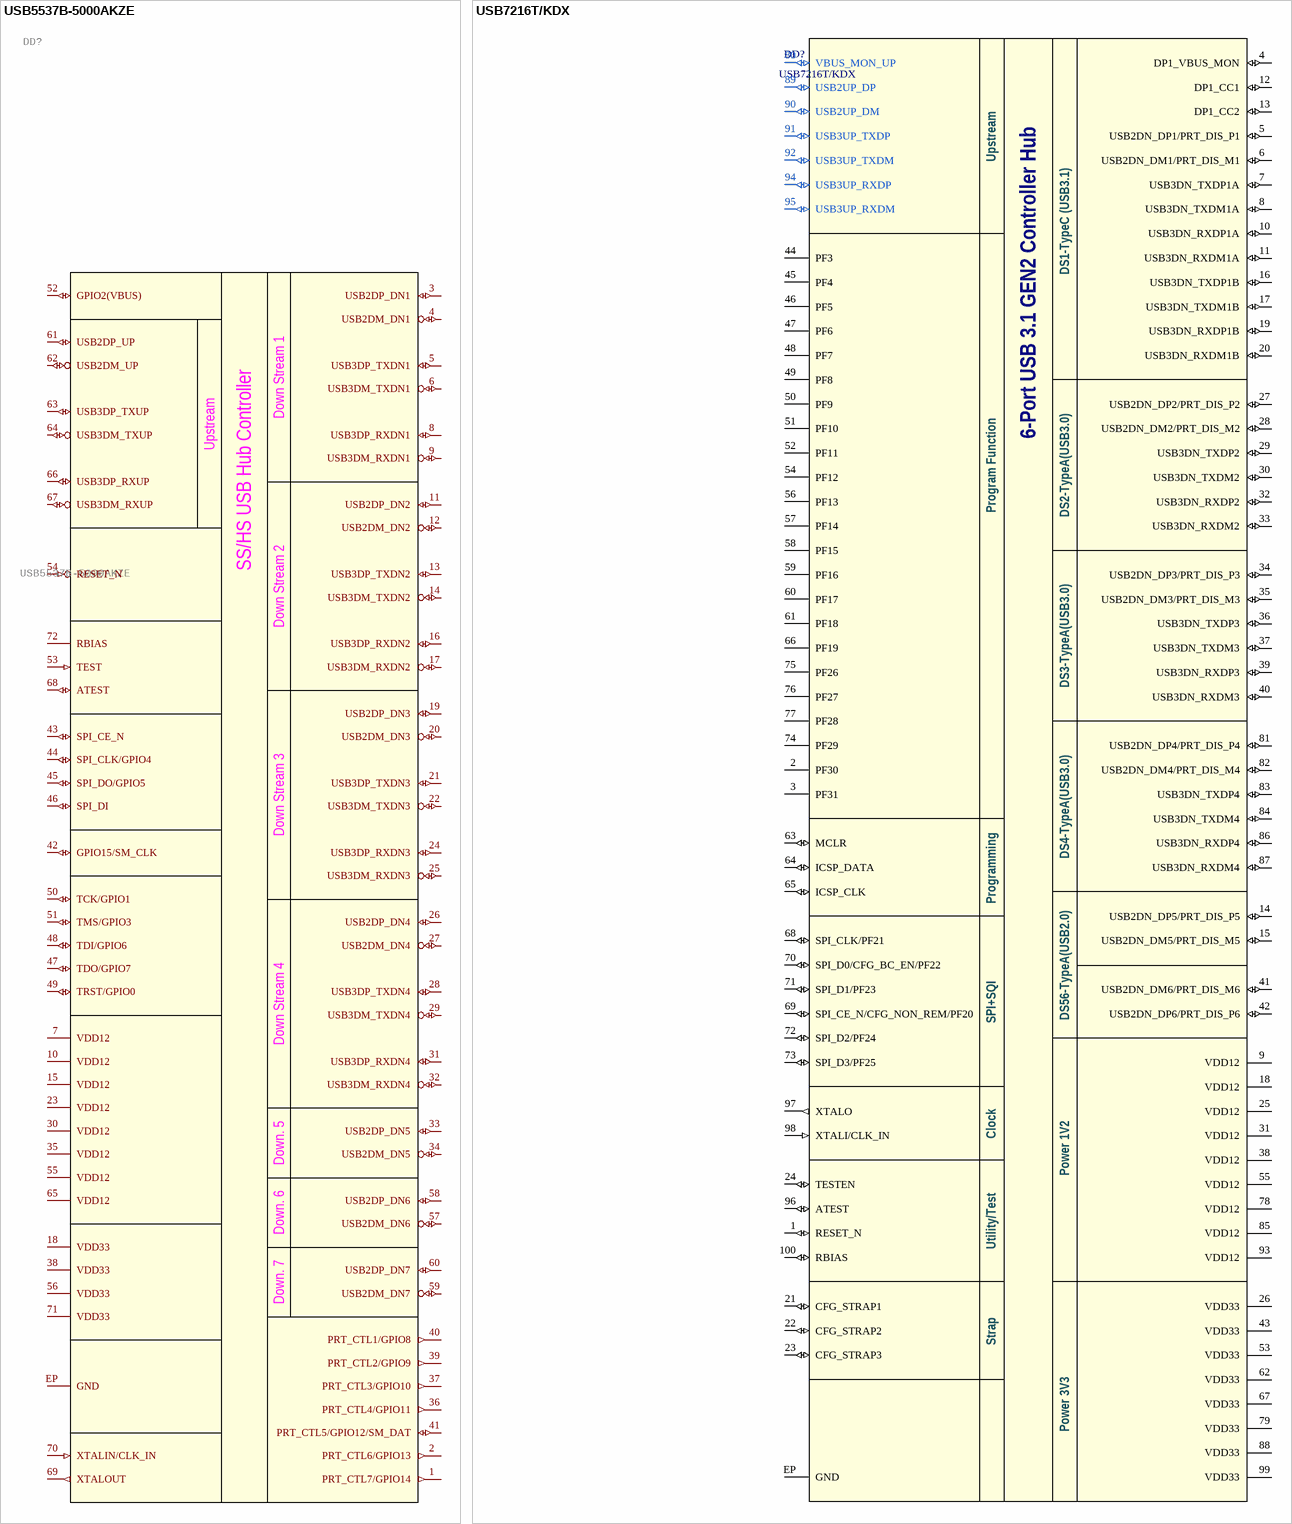
[diagram p5: symbols USB5537B-5000AKZE to USB7216T/KDX]

## USB5537B-5000AKZE
designator DD?
7-Port SS/HS USB Hub Controller; Manufacturer: Microchip Technology; Part Number: USB5537B-5000AKZE; Package: QFN-72
footprint QFN-72_USB5537B (QFN-72 package with 0.5mm pitch)
pins: 1 PRT_CTL7/GPIO14 (out), 2 PRT_CTL6/GPIO13 (out), 3 USB2DP_DN1 (io), 4 USB2DM_DN1 (io), 5 USB3DP_TXDN1 (io), 6 USB3DM_TXDN1 (io), 7 VDD12 (power), 8 USB3DP_RXDN1 (io), 9 USB3DM_RXDN1 (io), 10 VDD12 (power), 11 USB2DP_DN2 (io), 12 USB2DM_DN2 (io), 13 USB3DP_TXDN2 (io), 14 USB3DM_TXDN2 (io), 15 VDD12 (power), 16 USB3DP_RXDN2 (io), 17 USB3DM_RXDN2 (io), 18 VDD33 (power), 19 USB2DP_DN3 (io), 20 USB2DM_DN3 (io), 21 USB3DP_TXDN3 (io), 22 USB3DM_TXDN3 (io), 23 VDD12 (power), 24 USB3DP_RXDN3 (io), 25 USB3DM_RXDN3 (io), 26 USB2DP_DN4 (io), 27 USB2DM_DN4 (io), 28 USB3DP_TXDN4 (io), 29 USB3DM_TXDN4 (io), 30 VDD12 (power), 31 USB3DP_RXDN4 (io), 32 USB3DM_RXDN4 (io), 33 USB2DP_DN5 (io), 34 USB2DM_DN5 (io), 35 VDD12 (power), 36 PRT_CTL4/GPIO11 (out), 37 PRT_CTL3/GPIO10 (out), 38 VDD33 (power), 39 PRT_CTL2/GPIO9 (out), 40 PRT_CTL1/GPIO8 (out), 41 PRT_CTL5/GPIO12/SM_DAT (io), 42 GPIO15/SM_CLK (io), 43 SPI_CE_N (io), 44 SPI_CLK/GPIO4 (io), 45 SPI_DO/GPIO5 (io), 46 SPI_DI (io), 47 TDO/GPIO7 (io), 48 TDI/GPIO6 (io), 49 TRST/GPIO0 (io), 50 TCK/GPIO1 (io), 51 TMS/GPIO3 (io), 52 GPIO2(VBUS) (io), 53 TEST (in), 54 RESET_N (in), 55 VDD12 (power), 56 VDD33 (power), 57 USB2DM_DN6 (io), 58 USB2DP_DN6 (io), 59 USB2DM_DN7 (io), 60 USB2DP_DN7 (io), 61 USB2DP_UP (io), 62 USB2DM_UP (io), 63 USB3DP_TXUP (io), 64 USB3DM_TXUP (io), 65 VDD12 (power), 66 USB3DP_RXUP (io), 67 USB3DM_RXUP (io), 68 ATEST (io), 69 XTALOUT (out), 70 XTALIN/CLK_IN (in), 71 VDD33 (power), 72 RBIAS, EP GND (power)
text: Down Stream 1; Upstream; SS/HS USB Hub Controller; Down Stream 2; Down Stream 3; Down Stream 4; Down. 5; Down. 6; Down. 7

## USB7216T/KDX
designator DD?
6-Port USB 3.1 Gen 2 Type-C™ Controller Hub; Manufacturer: Microchip Technology; Part Number: USB7216T/KDX
footprint TQFN-100 (QFN, 100 pin, 12x12 body, 0.4mm pitch, EPAD 6.9mm, gang masked, windowed paste)
pins: 1 RESET_N (io), 2 PF30, 3 PF31, 4 DP1_VBUS_MON (io), 5 USB2DN_DP1/PRT_DIS_P1 (io), 6 USB2DN_DM1/PRT_DIS_M1 (io), 7 USB3DN_TXDP1A (io), 8 USB3DN_TXDM1A (io), 9 VDD12 (power), 10 USB3DN_RXDP1A (io), 11 USB3DN_RXDM1A (io), 12 DP1_CC1 (io), 13 DP1_CC2 (io), 14 USB2DN_DP5/PRT_DIS_P5 (io), 15 USB2DN_DM5/PRT_DIS_M5 (io), 16 USB3DN_TXDP1B (io), 17 USB3DN_TXDM1B (io), 18 VDD12 (power), 19 USB3DN_RXDP1B (io), 20 USB3DN_RXDM1B (io), 21 CFG_STRAP1 (io), 22 CFG_STRAP2 (io), 23 CFG_STRAP3 (io), 24 TESTEN (io), 25 VDD12 (power), 26 VDD33 (power), 27 USB2DN_DP2/PRT_DIS_P2 (io), 28 USB2DN_DM2/PRT_DIS_M2 (io), 29 USB3DN_TXDP2 (io), 30 USB3DN_TXDM2 (io), 31 VDD12 (power), 32 USB3DN_RXDP2 (io), 33 USB3DN_RXDM2 (io), 34 USB2DN_DP3/PRT_DIS_P3 (io), 35 USB2DN_DM3/PRT_DIS_M3 (io), 36 USB3DN_TXDP3 (io), 37 USB3DN_TXDM3 (io), 38 VDD12 (power), 39 USB3DN_RXDP3 (io), 40 USB3DN_RXDM3 (io), 41 USB2DN_DM6/PRT_DIS_M6 (io), 42 USB2DN_DP6/PRT_DIS_P6 (io), 43 VDD33 (power), 44 PF3, 45 PF4, 46 PF5, 47 PF6, 48 PF7, 49 PF8, 50 PF9, 51 PF10, 52 PF11, 53 VDD33 (power), 54 PF12, 55 VDD12 (power), 56 PF13, 57 PF14, 58 PF15, 59 PF16, 60 PF17, 61 PF18, 62 VDD33 (power), 63 MCLR (io), 64 ICSP_DATA (io), 65 ICSP_CLK (io), 66 PF19, 67 VDD33 (power), 68 SPI_CLK/PF21 (io), 69 SPI_CE_N/CFG_NON_REM/PF20 (io), 70 SPI_D0/CFG_BC_EN/PF22 (io), 71 SPI_D1/PF23 (io), 72 SPI_D2/PF24 (io), 73 SPI_D3/PF25 (io), 74 PF29, 75 PF26, 76 PF27, 77 PF28, 78 VDD12 (power), 79 VDD33 (power), 80 VBUS_MON_UP (io), 81 USB2DN_DP4/PRT_DIS_P4 (io), 82 USB2DN_DM4/PRT_DIS_M4 (io), 83 USB3DN_TXDP4 (io), 84 USB3DN_TXDM4 (io), 85 VDD12 (power), 86 USB3DN_RXDP4 (io), 87 USB3DN_RXDM4 (io), 88 VDD33 (power), 89 USB2UP_DP (io), 90 USB2UP_DM (io), 91 USB3UP_TXDP (io), 92 USB3UP_TXDM (io), 93 VDD12 (power), 94 USB3UP_RXDP (io), 95 USB3UP_RXDM (io), 96 ATEST (io), 97 XTALO (out), 98 XTALI/CLK_IN (in), 99 VDD33 (power), 100 RBIAS (io), EP GND (power)
text: Upstream; DS1-TypeC (USB3.1); 6-Port USB 3.1 GEN2 Controller Hub; Program Function; DS2-TypeA(USB3.0); DS3-TypeA(USB3.0); DS4-TypeA(USB3.0); Programming; DS56-TypeA(USB2.0); SPI+SQI; Clock; Power 1V2; Utility/Test; Strap; Power 3V3